# EAGLE library part POE-RJ45 (library FansElectronics-Wiznet)
HUNRUN CON RJ45
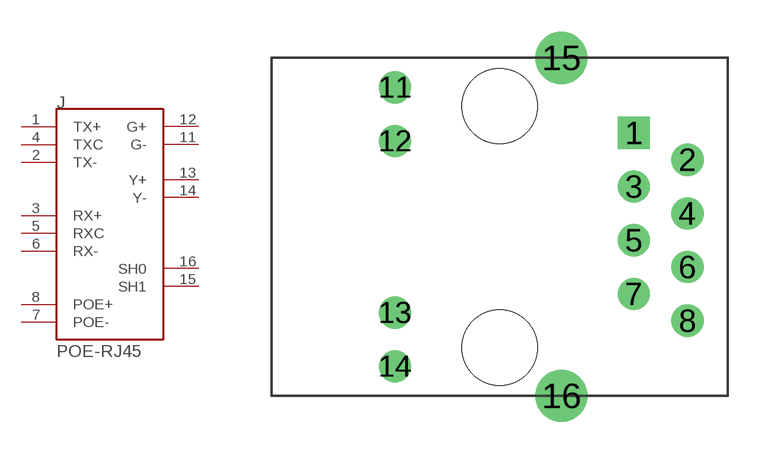
[diagram p1: symbol with the pads of POE-RJ45; footprint POE-RJ45]

Designator prefix J

## POE-RJ45  [POE-RJ45]
1  TX+
2  TX-
3  RX+
4  TXC
5  RXC
6  RX-
7  POE-
8  POE+
11  G-
12  G+
13  Y+
14  Y-
15  SH1
16  SH0

## Footprint POE-RJ45 (pad centres in mm)
drill 0.813 pad 1.524 square: 1 6.35,4.445
drill 0.813 pad 1.524: 2 8.89,3.175; 3 6.35,1.905; 4 8.89,0.635; 5 6.35,-0.635; 6 8.89,-1.905; 7 6.35,-3.175; 8 8.89,-4.445; 11 -4.953,6.604; 12 -4.953,4.064; 13 -4.953,-4.064; 14 -4.953,-6.604
drill 1.651 pad 2.159: 15 2.921,8.001; 16 2.921,-8.001
hole 3.556 at 0,5.715
hole 3.556 at 0,-5.715